# Altium footprint library Connector.PcbLib: 4 footprints
Each footprint in its own frame and in the unit in brackets; x right, y up, seen from the top. Pads: shape width x height; smd on the part's side, far side on the other; paste and mask are expansions set on the pad; w line width, h text height; cw(c..) or ccw(c..) is an arc to the next point about the centre after c.
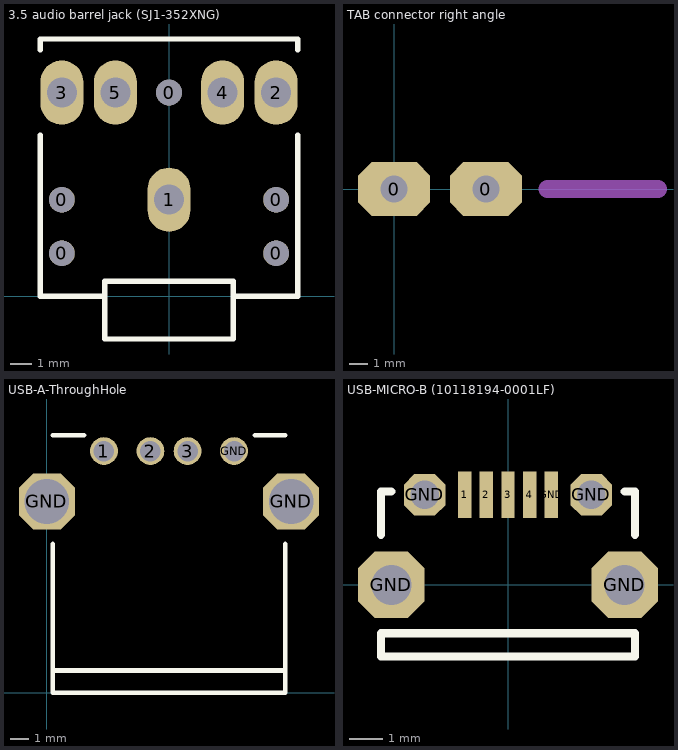
[diagram p0: the footprints below, top view; thin cyan lines are the x and y axes]

## 3.5 audio barrel jack (SJ1-352XNG) [mm]
pads (10):
  round 1.2 hole 1.2 unplated paste+0: 0(-5,2) 0(-5,4.5) 0(0,9.5) 0(5,2) 0(5,4.5)
  oval 2x3 hole 1.4 paste+0: 1(0,4.5) 2(5,9.5) 3(-5,9.5) 4(2.5,9.5) 5(-2.5,9.5)
Top Overlay:
  lines w0.254: -6,7.5 -6,0 -3,0 ; -6,11.5 -6,12 6,12 6,11.5 ; 6,7.5 6,0 3,0 ; -3,0 -3,0.7 3,0.7 3,0 ; -3,0 -3,-2 3,-2 3,0
3D body "sj1-3523ng.stp": height 5.5, standoff -3.3, extent -6,-2.05 6,12

## TAB connector right angle [mm]
pads (2):
  oct 4x3 hole 1.5 paste+0: 0(0,0) 0(5.08,0)
Mechanical 13:
  lines w1: 8.5,0 14.61,0
3D body "c-1217756-1-e-3d.stp": height 7.47, standoff -3.8, extent -0.6,-0.4 13.624,0.4

## USB-A-ThroughHole [mm]
pads (6):
  round 1.5 hole 1.1: 1(3.07,13) 2(5.57,13) 3(7.57,13) GND(10.07,13)
  oct 3x3 hole 2.4: GND(0,10.29) GND(13.14,10.29)
Top Overlay:
  lines w0.254: 0.32,1.2 12.82,1.2 ; 0.32,8 0.32,0 12.82,0 12.82,8 ; 0.32,13.85 2,13.85 ; 11.2,13.85 12.82,13.85
3D body "M-UE27-AC54-100-REVT1.STEP": height 7.6, standoff -3.15, extent -0.826,0 14.026,13.8

## USB-MICRO-B (10118194-0001LF) [mm] "Round Holes; USB - micro B USB 2.0 Receptacle Connector 5 Position Surface Mount, Right Angle, Horizontal"
height 3
pads (9):
  rect 0.4x1.4 smd mask+0.08: 1(-1.3,2.7) 2(-0.65,2.7) 3(0,2.7) 4(0.65,2.7) GND(1.3,2.7)
  oct 2x2 hole 1.2: GND(-3.5,0) GND(3.5,0)
  oct 1.25x1.25 hole 0.85: GND(-2.5,2.7) GND(2.5,2.7)
Top Overlay:
  lines w0.254: -3.81,1.5 -3.81,2.8 -3.5,2.8 ; 3.5,2.8 3.81,2.8 3.81,1.5 ; -3.81,-2.15 -3.81,-1.45 3.81,-1.45 3.81,-2.15 -3.81,-2.15
3D body "User Library-10118194_.SLDPRT": height 3.13, standoff -0.15, extent -4,-2.69 4.05,2.89